# Altium schematic symbol library Connector-RF.SchLib: 11 symbols
Pins are listed as number, name and electrical type; pins without a type are passive.

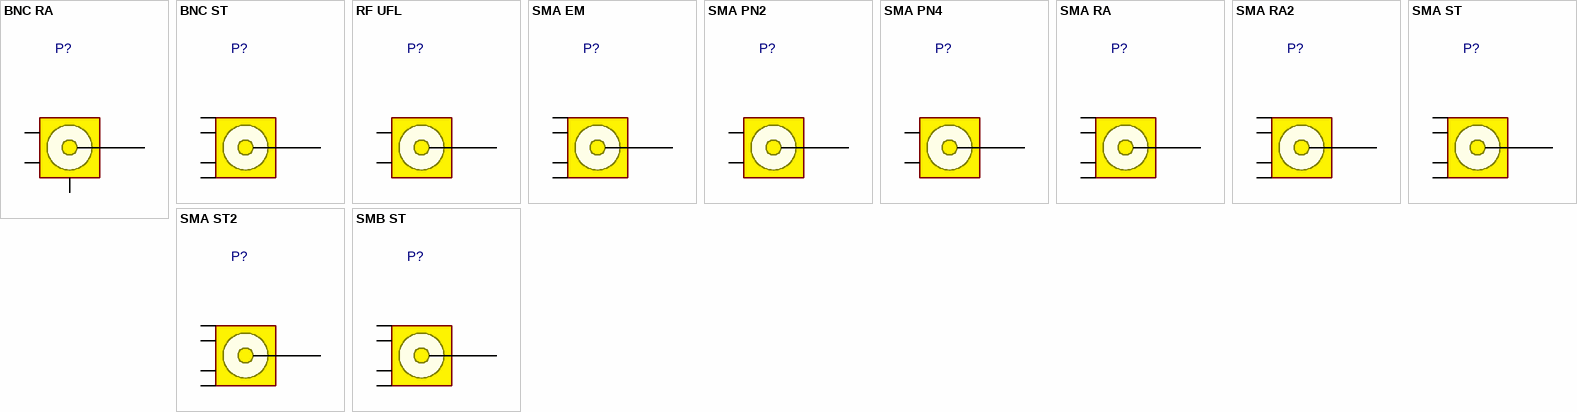
[diagram p0: symbols BNC RA to SMB ST]

## BNC RA
designator P?
CONN, RF, BNC, STRAIGHT; DatasheetVersion: 2022
footprint BNC_RA (BNC connector, right angle PCB-mounted Elbow)
pins: 1 SIG, 2 GND, MH1, MH2

## BNC ST
designator P?
CONN, RF, BNC, STRAIGHT; DatasheetVersion: 2022
footprint BNC_ST (BNC Short Connector)
pins: 1 SIG, 2 G1, 3 G2, 4 G3, 5 G4

## RF UFL
designator P?
CONN, RF, U.FL, STRAIGHT, Ultra Miniature Coaxial; DatasheetVersion: 2022
footprint UFL (CONN RF, COAX UP, U.FL-R-SMT-1 2.8x2.8mm)
pins: 1 SIG, 2 G1, 3 G2

## SMA EM
designator P?
CONN, RF, SMA, Edge mounting; DatasheetVersion: 2022
footprint SMA_EM (SMA-J-P-H-ST-EM1 edge mounting)
pins: 1 SIG, 2 G1, 3 G2, 4 G3, 5 G4

## SMA PN2
designator P?
CONN, RF, SMA, Wall mounting 1pin; DatasheetVersion: 2022
footprint SMA_PN2 (SMA-J-P-H-ST-PN2, 1pin Wall mounting)
pins: 1 SIG, 2 G1, 3 G2

## SMA PN4
designator P?
CONN, RF, SMA, Wall mounting 1pin; DatasheetVersion: 2022
footprint SMA_PN4 (SMA-J-P-H-ST-PN4 1pin Wall mounting)
pins: 1 SIG, 2 G1, 3 G2

## SMA RA
designator P?
CONN, RF, SMA, Right Angle; DatasheetVersion: 2022
footprint SMA_RA (CONN, RF, COAX, SMA, RIGHT ANGLE THD)
pins: 1 SIG, 2 G1, 3 G2, 4 G3, 5 G4

## SMA RA2
designator P?
CONN, RF, SMA, Right Angle; DatasheetVersion: 2022
footprint SMA_RA2 (CONN, RF, COAX, SMA, RIGHT ANGLE, SMA-J-P-XX-RA-MT1smt pin with 4 tht pin ground)
pins: 1 SIG, 2 G1, 3 G2, 4 G3, 5 G4

## SMA ST
designator P?
CONN, RF, SMA, STRAIGHT; ComponentLink1Description: Tarahiboard; ComponentLink1URL: https://www.tarahiboard.com/product/library-pack; DatasheetVersion: 2022
footprint SMA_ST
pins: 1 SIG, 2 G1, 3 G2, 4 G3, 5 G4

## SMA ST2
designator P?
CONN, RF, SMA, STRAIGHT, smt pin with 4 tht pin ground; DatasheetVersion: 2022
footprint SMA_ST2 (SMA-J-P-X-ST-MT1 straight smt pin with 4 tht pin ground)
pins: 1 SIG, 2 G1, 3 G2, 4 G3, 5 G4

## SMB ST
designator P?
CONN, RF, SMB, STRAIGHT; DatasheetVersion: 2022
footprint SMB_ST (High Frequency SMB Connector)
pins: 1 SIG, 2 G1, 3 G2, 4 G3, 5 G4